# EAGLE library part BMP388 (library BMP388)
P-Sensor SPI I2C 1, 25 Bar SMD
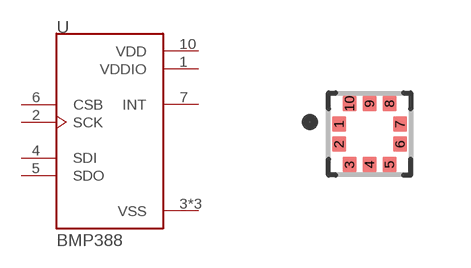
[diagram p0: symbol with the pads of PQFN50P200X200X80-10N; footprint PQFN50P200X200X80-10N]

Designator prefix U

## BMP388 (Description: P-Sensor SPI I2C 1, 25 Bar SMD; Digi-Key_Part_Number: 828-1079-1-ND; Digi-Key_Purchase_URL: https://www.digikey.ca/product-detail/en/bosch-sensortec/BMP388/828-1079-1-ND/8322640?utm_source=snapeda&utm_medium=aggregator&utm_campaign=symbol; MF: Bosch Sensortec; MP: BMP388; Package: WFLGA-10 Bosch Tools)  [PQFN50P200X200X80-10N]
1  VDDIO  pwr
2  SCK  in
3  VSS  pwr
4  SDI
5  SDO
6  CSB  in
7  INT  out
8  VSS  pwr
9  VSS  pwr
10  VDD  pwr

## Footprint PQFN50P200X200X80-10N (pad centres in mm)
smd 0.35 x 0.38: 1 -0.765,0.25; 2 -0.765,-0.25; 3 -0.5,-0.765; 4 0,-0.765; 5 0.5,-0.765; 6 0.765,-0.25; 7 0.765,0.25; 8 0.5,0.765; 9 0,0.765; 10 -0.5,0.765